# Altium integrated library Misaka-v1.0.IntLib: 69 symbols (part 2 of 2)
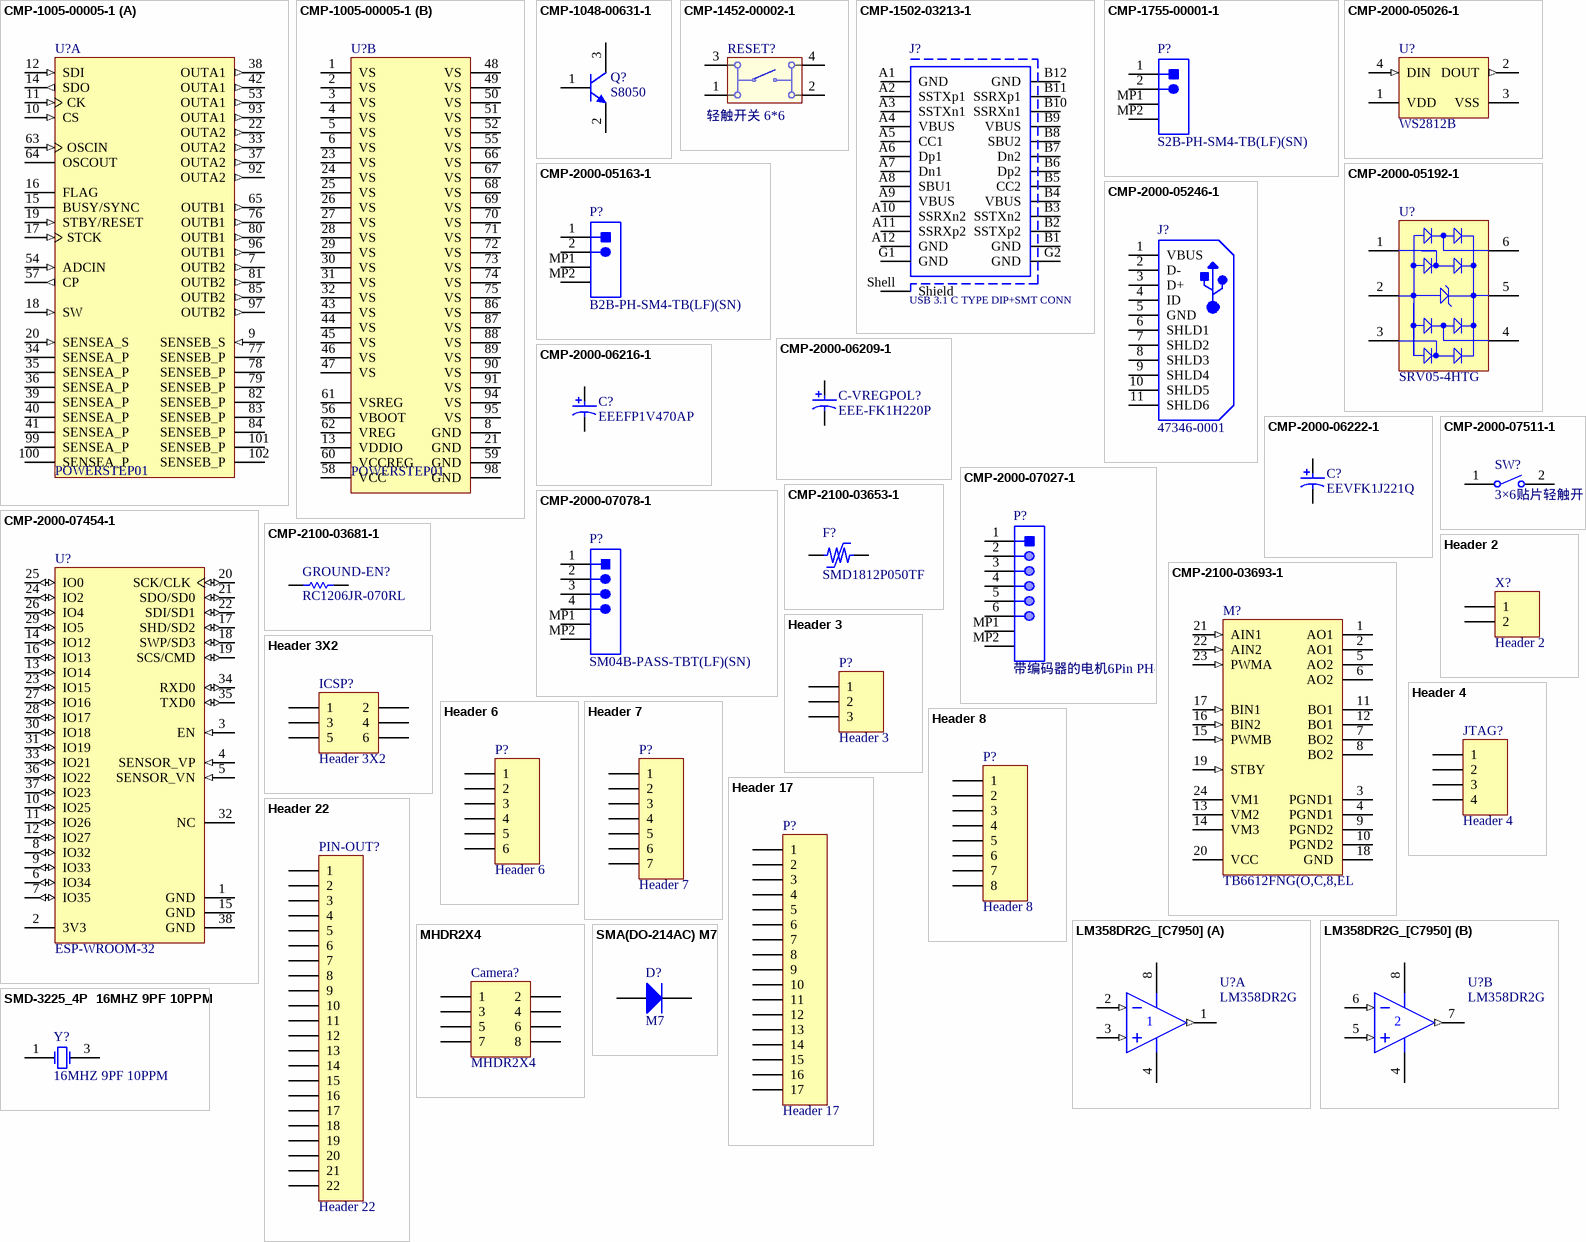
[diagram p2: symbols CMP-1005-00005-1 to SMD-3225_4P  16MHZ 9PF 10PPM]

## CMP-2000-07511-1
designator SW?, comment 3×6贴片轻触开关
FSMSM Push Button Switch, 50 mA, -35 to 85 degC, 2-Pin SMD, RoHS, Bulk; Manufacturer: TE Connectivity; Manufacturer: TE Connectivity Alcoswitch; Actuator Length: 1.07mm; Electrical Life: 20000Cycles; Actuator Material: Polyamide; Current Rating: 50mA; Illumination Type: Illuminated; Voltage Rating (DC): 24V; Contact Resistance: 100mOhm; Case\/Package: SMD/SMT; Operating Force: 180gf; Switch Travel: 0.25mm; Max Voltage Rating (DC): 12V; Throw Configuration: SPST; Packaging: LoosePiece; Max Operating Temperature: 85degC; ELV: Compliant; Package Description: 2-Pin Surface Mount Device, Body 6 x 3.5 mm, Pitch 9.19 mm; RoHSCompliant: true; Manufacturer URL: http://www.te.com/; Contact Plating: Silver; Contact Material: Brass; Mounting Technology: SurfaceMount; Contact Current Rating: 50mA; Datasheet Version: Rev. C2, 08/2014; Datasheet URL: http://www.te.com/commerce/DocumentDelivery/DDEController?Action=showdoc&DocId=Customer+Drawing%7F1437566-3%7FC2%7Fpdf%7FEnglish%7FENG_CD_1437566-3_C2_1437566_3_1_c.dwg.pdf%7F1437566-3; Mechanical Life: 20000Cycles; Package Reference: FSMSM; REACH SVHC: Unknown; Orientation: Straight; Min Operating Temperature: -35degC; Lead Free: LeadFree; Termination: GullWing; Package Quantity: 1000; Mount: SurfaceMount; Manufacturer Part Number: FSMSM
footprint TECO-FSMSM-2_V (SMD, 2-Leads, Body 6x3.5mm, Pitch 9.19mm)
pins: 1, 2

## CMP-2100-03653-1
designator F?, comment SMD1812P050TF
PTC Resettable Fuse, 15 V, 500 mA, -40 to 85 degC, 2-Pin SMD, RoHS, Tape and Reel; Manufacturer: Bourns; Manufacturer Part Number: MF-MSMF050-2; Voltage Rating (DC): 15V; Max Current Rating: 100A; Power Dissipation: 800mW; Resistance: 150mOhm; Width: 3.41mm; Package Quantity: 2000; Voltage Rating: 15V; RoHSCompliant: true; Contact Plating: Gold; REACH SVHC: NoSVHC; Datasheet URL: http://www.bourns.com/docs/Product-Datasheets/mfmsmf.pdf; Lead Free: LeadFree; Height: 0.85mm; Min Operating Temperature: -40degC; Case Code (Metric): 4532; Number of Terminals: 2; Case Code (Imperial): 1812; Case/Package: 1812; Current Rating: 100A; Length: 4.73mm; Max Operating Temperature: 85degC; Package Reference: MF-MSMF050-2; Radiation Hardening: No; Datasheet Version: Rev. AG, 08/2016; Packaging: TapeandReel; Termination: SMD/SMT; Supply Voltage: 15V; Manufacturer URL: http://www.bourns.com/; Mount: SurfaceMount; Package Description: 2-Pin Surface Mount Device, Body 4.55 x 3.24 mm
footprint BOUR-MF-MSMF050-2_V (SMD, 2-Leads, Body 4.55x3.24mm)
pins: 1, 2

## CMP-2100-03681-1
designator GROUND-EN?, comment RC1206JR-070RL
Chip Resistor, 0 Ohm, +/- 5%, -55 to 155 degC, 1206 (3216 Metric), RoHS, Tape and Reel; Manufacturer: Yageo; Max Power Dissipation: 250mW; Resistance: 0mOhm; Voltage Rating: 200V; Temperature Coefficient: 200ppm/degreesC; Case Code (Imperial): 1206; Lead Free: LeadFree; Package Quantity: 5000; Radiation Hardening: No; Tolerance: 5%; Length: 3.1mm; Termination: SMD/SMT; Contact Plating: Tin; Military Standard: Not; Manufacturer URL: http://www.yageo.com/; Datasheet URL: http://www.yageo.com/documents/recent/PYu-RC_Group_51_RoHS_L_5.pdf; Height: 0.026inch; RoHSCompliant: true; Min Operating Temperature: -55degC; REACH SVHC: Unknown; Max Operating Temperature: 155degC; Depth: 1.6mm; Packaging: TapeandReel; Package Reference: 1206.0; Number of Terminations: 2; Case/Package: 1206; Composition: CarbonFilm; Case Code (Metric): 3216; Datasheet Version: Rev. 5, 10/2016; Power Rating: 250mW; Package Description: 2-Pin Surface Mount Device, Body 3.1 x 1.6 mm; Width: 0.063inch; Manufacturer Part Number: RC1206JR-070RL
footprint RESC3116X65X40ML10T20 (Chip Resistor, 2-Leads, Body 3.10x1.60mm, IPC Low Density)
footprint RESC3116X65X40NL10T20 (Chip Resistor, 2-Leads, Body 3.10x1.60mm, IPC Medium Density)
footprint RESC3116X65X40LL10T20 (Chip Resistor, 2-Leads, Body 3.10x1.60mm, IPC High Density)
pins: 1, 2

## CMP-2100-03693-1
designator M?, comment TB6612FNG(O,C,8,EL
Toshiba Bi-CD Integrated Circuit Silicon Monolithicr, 2.7 to 5.5 V, 1 A, -20 to 85 degC, 24-Pin SSOP, RoHS, Tape and Reel; Manufacturer Part Number: TB6612FNG,C,8,EL; Package Reference: SSOP24-P-300-0.65A; Manufacturer URL: http://www.toshiba.com/; Datasheet URL: https://toshiba.semicon-storage.com/info/docget.jsp?did=10660&prodName=TB6612FNG; Manufacturer: Toshiba; Package Description: 24-Pin Shrink Small Outline Package Integrated Circuit, Body 7.8 x 5.6 mm, Pitch 0.65 mm; Datasheet Version: 41913.0
footprint TOSH-SSOP24-P-300-0.65A_M (TSOP, 24-Leads, Body 8x5.8mm, Pitch 0.65mm, IPC Low Density)
footprint TOSH-SSOP24-P-300-0.65A_N (TSOP, 24-Leads, Body 8x5.8mm, Pitch 0.65mm, IPC Medium Density)
footprint TOSH-SSOP24-P-300-0.65A_L (TSOP, 24-Leads, Body 8x5.8mm, Pitch 0.65mm, IPC High Density)
pins: 1 AO1 (hiz) "ch A output1", 2 AO1 (hiz) "ch A output1", 3 PGND1 (power) "Power GND 1", 4 PGND1 (power) "Power GND 1", 5 AO2 (hiz) "ch A output2", 6 AO2 (hiz) "ch A output2", 7 BO2 (hiz) "ch B output2", 8 BO2 (hiz) "ch B output2", 9 PGND2 (power) "Power GND 2", 10 PGND2 (power) "Power GND 2", 11 BO1 (hiz) "ch B output1", 12 BO1 (hiz) "ch B output1", 13 VM2 (power) "Motor supply (2.5 V to 13.5 V)", 14 VM3 (power) "Motor supply (2.5 V to 13.5 V)", 15 PWMB (in) "ch B PWM input / 200 kohm pull-down at internal", 16 BIN2 (in) "ch B input 2 / 200 kohm pull-down at internal", 17 BIN1 (in) "ch B input 1 / 200 kohm pull-down at internal", 18 GND (power) "Small signal GND", 19 STBY (in) "“L”=standby / 200 kohm pull-down at internal", 20 VCC (power) "Small signal supply", 21 AIN1 (in) "ch A input 1 / 200 kohm pull-down at internal", 22 AIN2 (in) "ch A input 2 / 200 kohm pull-down at internal", 23 PWMA (in) "ch A PWM input / 200 kohm pull-down at internal", 24 VM1 (power) "Motor supply (2.5 V to 13.5 V)"

## Header 2
designator X?
Header, 2-Pin; LatestRevisionDate: 17-Jul-2002; LatestRevisionNote: Re-released for DXP Platform.; Publisher: Altium Limited
footprint HDR1X2 (Connector; Header; 2 Position)
signal-integrity model Connector
pins: 1, 2

## Header 3
designator P?
Header, 3-Pin; LatestRevisionDate: 17-Jul-2002; LatestRevisionNote: Re-released for DXP Platform.; Publisher: Altium Limited
footprint HDR1X3 (Connector; Header; 3 Position)
signal-integrity model Connector
pins: 1, 2, 3

## Header 3X2
designator ICSP?
Header, 3-Pin, Dual row; LatestRevisionDate: 17-Jul-2002; LatestRevisionNote: Re-released for DXP Platform.; Publisher: Altium Limited
footprint HDR2X3 (Connector; Header; 3x2 Position)
signal-integrity model Connector
pins: 1, 2, 3, 4, 5, 6

## Header 4
designator JTAG?
Header, 4-Pin; LatestRevisionDate: 17-Jul-2002; LatestRevisionNote: Re-released for DXP Platform.; Publisher: Altium Limited
footprint HDR1X4 (Connector; Header; 4 Position)
signal-integrity model Connector
pins: 1, 2, 3, 4

## Header 6
designator P?
Header, 6-Pin; LatestRevisionDate: 17-Jul-2002; LatestRevisionNote: Re-released for DXP Platform.; Publisher: Altium Limited
footprint HDR1X6 (Connector; Header; 6 Position)
signal-integrity model Connector
pins: 1, 2, 3, 4, 5, 6

## Header 7
designator P?
Header, 7-Pin; LatestRevisionDate: 17-Jul-2002; LatestRevisionNote: Re-released for DXP Platform.; Publisher: Altium Limited
footprint HDR1X7 (Connector; Header; 7 Position)
signal-integrity model Connector
pins: 1, 2, 3, 4, 5, 6, 7

## Header 8
designator P?
Header, 8-Pin; LatestRevisionDate: 17-Jul-2002; LatestRevisionNote: Re-released for DXP Platform.; Publisher: Altium Limited
footprint HDR1X8 (Connector; Header; 8 Position)
signal-integrity model Connector
pins: 1, 2, 3, 4, 5, 6, 7, 8

## Header 17
designator P?
Header, 17-Pin; LatestRevisionDate: 17-Jul-2002; LatestRevisionNote: Re-released for DXP Platform.; Publisher: Altium Limited
footprint HDR1X17 (Connector; Header; 17 Position)
signal-integrity model Connector
pins: 1, 2, 3, 4, 5, 6, 7, 8, 9, 10, 11, 12, 13, 14, 15, 16, 17

## Header 22
designator PIN-OUT?
Header, 22-Pin; LatestRevisionDate: 17-Jul-2002; LatestRevisionNote: Re-released for DXP Platform.; Publisher: Altium Limited
footprint HDR1X22 (Connector; Header; 22 Position)
signal-integrity model Connector
pins: 1, 2, 3, 4, 5, 6, 7, 8, 9, 10, 11, 12, 13, 14, 15, 16, 17, 18, 19, 20, 21, 22

## LM358DR2G_[C7950]
designator U?, comment LM358DR2G
通用运放; ComponentLink1Description: 供应商链接; ComponentLink1URL: http://www.szlcsc.com/product/details_8427.html; Package: SOIC-8; Supplier: LC; SuppliersPartNumber: C7950
footprint SOIC-8_150mil
pins on every part: 4 V- (power), 8 V+ (power)
part A pins: 1 OUT (out), 2 IN- (in), 3 IN+ (in)
part B pins: 5 IN+ (in), 6 IN- (in), 7 OUT (out)

## MHDR2X4
designator Camera?
Header, 4-Pin, Dual row; LatestRevisionDate: 17-Jul-2002; LatestRevisionNote: Re-released for DXP Platform.; Publisher: Altium Limited
footprint MHDR2X4 (Connector; Header; 4x2 Position)
signal-integrity model Connector
pins: 1, 2, 3, 4, 5, 6, 7, 8

## SMA(DO-214AC) M7
designator D?, comment M7
二极管; Notepad: 1N4007 4007 编号C2464 已经停售, 使用新物料编号C95872; ComponentLink1Description: 供应商链接; ComponentLink1URL: http://www.szlcsc.com/product/details_2841.html; Package: SMA(DO-214AC); Supplier: LC; SuppliersPartNumber: C95872
footprint SMA(DO-214AC)_S1
pins: 1 A, 2 K

## SMD-3225_4P  16MHZ 9PF 10PPM
designator Y?, comment 16MHZ 9PF 10PPM
贴片晶振; ComponentLink1Description: 供应商链接; ComponentLink1URL: http://www.szlcsc.com/product/details_14393.html; Package: SMD-3225_4P; Supplier: LC; SuppliersPartNumber: C13738
footprint SMD-3225_4P
pins: 1 OSC1, 3 OSC2